# EAGLE library part PCA9685 (library 2000dB)
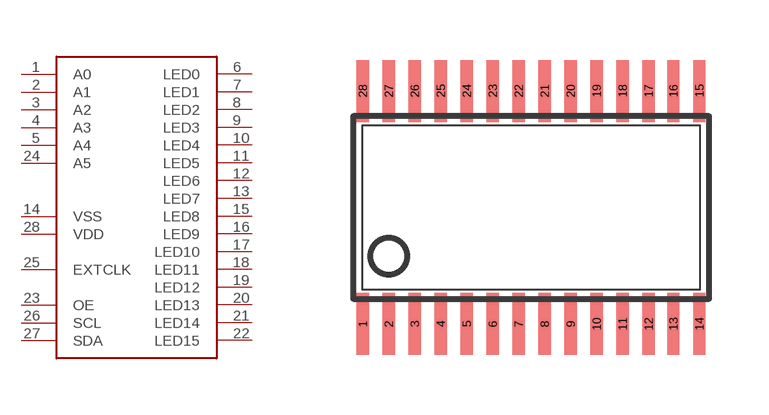
[diagram p11: symbol with the pads of TSSOP28; footprint TSSOP28]

Designator prefix -

## PCA9685  [TSSOP28]
1  A0
2  A1
3  A2
4  A3
5  A4
6  LED0
7  LED1
8  LED2
9  LED3
10  LED4
11  LED5
12  LED6
13  LED7
14  VSS
15  LED8
16  LED9
17  LED10
18  LED11
19  LED12
20  LED13
21  LED14
22  LED15
23  OE
24  A5
25  EXTCLK
26  SCL
27  SDA
28  VDD

## Footprint TSSOP28 (pad centres in mm)
smd 0.305 x 1.55: 1 -3.575,-2.918; 2 -2.925,-2.918; 3 -2.275,-2.918; 4 -1.625,-2.918; 5 -0.975,-2.918; 6 -0.325,-2.918; 7 0.325,-2.918; 8 0.975,-2.918; 9 1.625,-2.918; 10 2.275,-2.918; 11 2.925,-2.918; 12 3.575,-2.918; 13 4.195,-2.918; 14 4.845,-2.918; 15 4.845,2.918; 16 4.195,2.918; 17 3.575,2.918; 18 2.925,2.918; 19 2.275,2.918; 20 1.625,2.918; 21 0.975,2.918; 22 0.325,2.918; 23 -0.325,2.918; 24 -0.975,2.918; 25 -1.625,2.918; 26 -2.275,2.918; 27 -2.925,2.918; 28 -3.575,2.918